# Altium schematic symbol library TPS61088.Schlib: 1 symbol
Pins are listed as number, name and electrical type; pins without a type are passive.

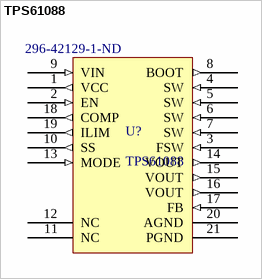
[diagram p0: symbol TPS61088]

## TPS61088
designator U?  Supplier Part Number 1: 296-42129-1-ND
Boost converter; Supplier 1: Digi-Key
footprint QFN50P450X350X100-21N
pins: 1 VCC (out) "Output of the internal regulator. A ceramic capacitor of more than 1.0 µF is required between this pin and ground.", 2 EN (in), 3 FSW (in), 4 SW (in), 5 SW (in), 6 SW (in), 7 SW (in), 8 BOOT (out), 9 VIN (in), 10 SS (out), 11 NC, 12 NC, 13 MODE (in), 14 VOUT (out), 15 VOUT (out), 16 VOUT (out), 17 FB (in), 18 COMP (out), 19 ILIM (out), 20 AGND (power), 21 PGND (power)